# EAGLE library part WE-FB_LT35XX/LT3748_EE16/8/5 (library Wurth_Elektronik_Passive_rev15d)
WE-FB Flyback Transformer LT35xx / LT3748 Characteristics Standard transformers for various output voltages currents available Easy design of custom power supply due to standard circuit and change of transformers and two components for feedback loop Isolation voltage up to 2.5 kV Applications Isolated power design Sensor interfaces Isolated telecom converters Power over Ethernet <http://katalog.we-online.de/media/images/eisos/UtFB_LT_MID_pf2.jpg> Details see: http://katalog.we-online.de/en/pbs/WE-FB_Linear? Updated 2015-04-03 2015 (C) Wurth Elektronik
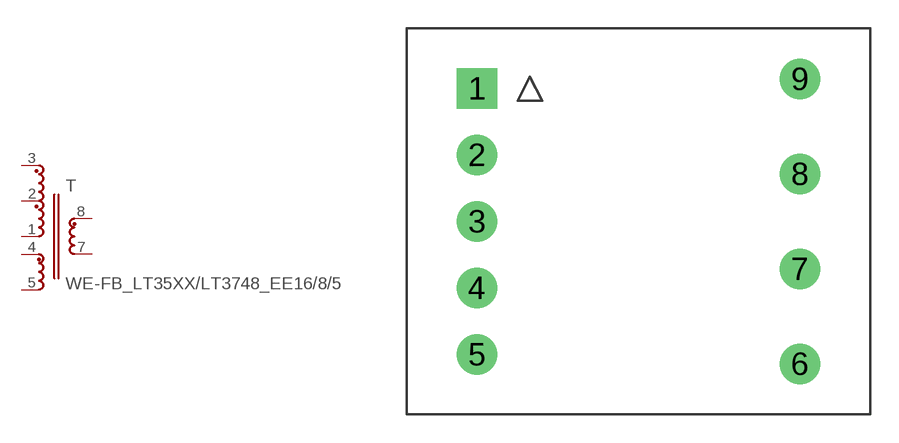
[diagram p92: symbol with the pads of WE-FB_EE16/8/5; footprint WE-FB_EE16/8/5]

Designator prefix T

## WE-FB_LT35XX/LT3748_EE16/8/5_750811048  [WE-FB_EE16/8/5]
1  6  pas
2  7  pas
3  1  pas
4  5  pas
5  4  pas
7  3  pas
8  2  pas

## Footprint WE-FB_EE16/8/5 (pad centres in mm)
drill 1.42 square: 1 -8.5,7
drill 1.42: 2 -8.5,3.5; 3 -8.5,0; 4 -8.5,-3.5; 5 -8.5,-7; 6 8.5,-7.5; 7 8.5,-2.5; 8 8.5,2.5; 9 8.5,7.5